# EAGLE library part SDCARD_ (library akita)
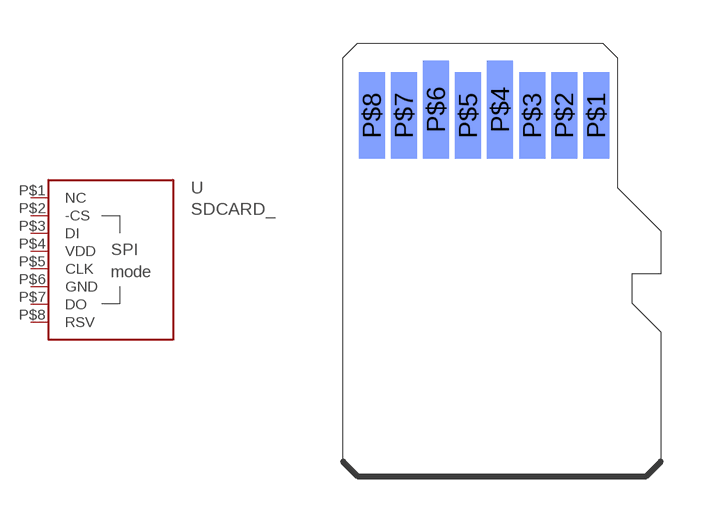
[diagram p205: symbol with the pads of USD_PCB; footprint USD_PCB]

Designator prefix U

## SDCARD_  [USD_PCB]
P$1  NC
P$2  -CS
P$3  DI
P$4  VDD
P$5  CLK
P$6  GND
P$7  DO
P$8  RSV

## Footprint USD_PCB (pad centres in mm)
micro SD card-shaped PCB terminal
smd 0.9 x 3 bottom: P$1 8.77,12.5; P$2 7.66,12.5; P$3 6.55,12.5; P$5 4.33,12.5; P$7 2.11,12.5; P$8 1,12.5
smd 0.9 x 3.4 bottom: P$4 5.44,12.7; P$6 3.22,12.7